# Altium footprint library QFP_Shrink_Sq_50P_Side_N.PcbLib: 32 footprints (part 1 of 3)
Each footprint in its own frame and in the unit in brackets; x right, y up, seen from the top. Pads: shape width x height; smd on the part's side, far side on the other; paste and mask are expansions set on the pad; w line width, h text height; cw(c..) or ccw(c..) is an arc to the next point about the centre after c.
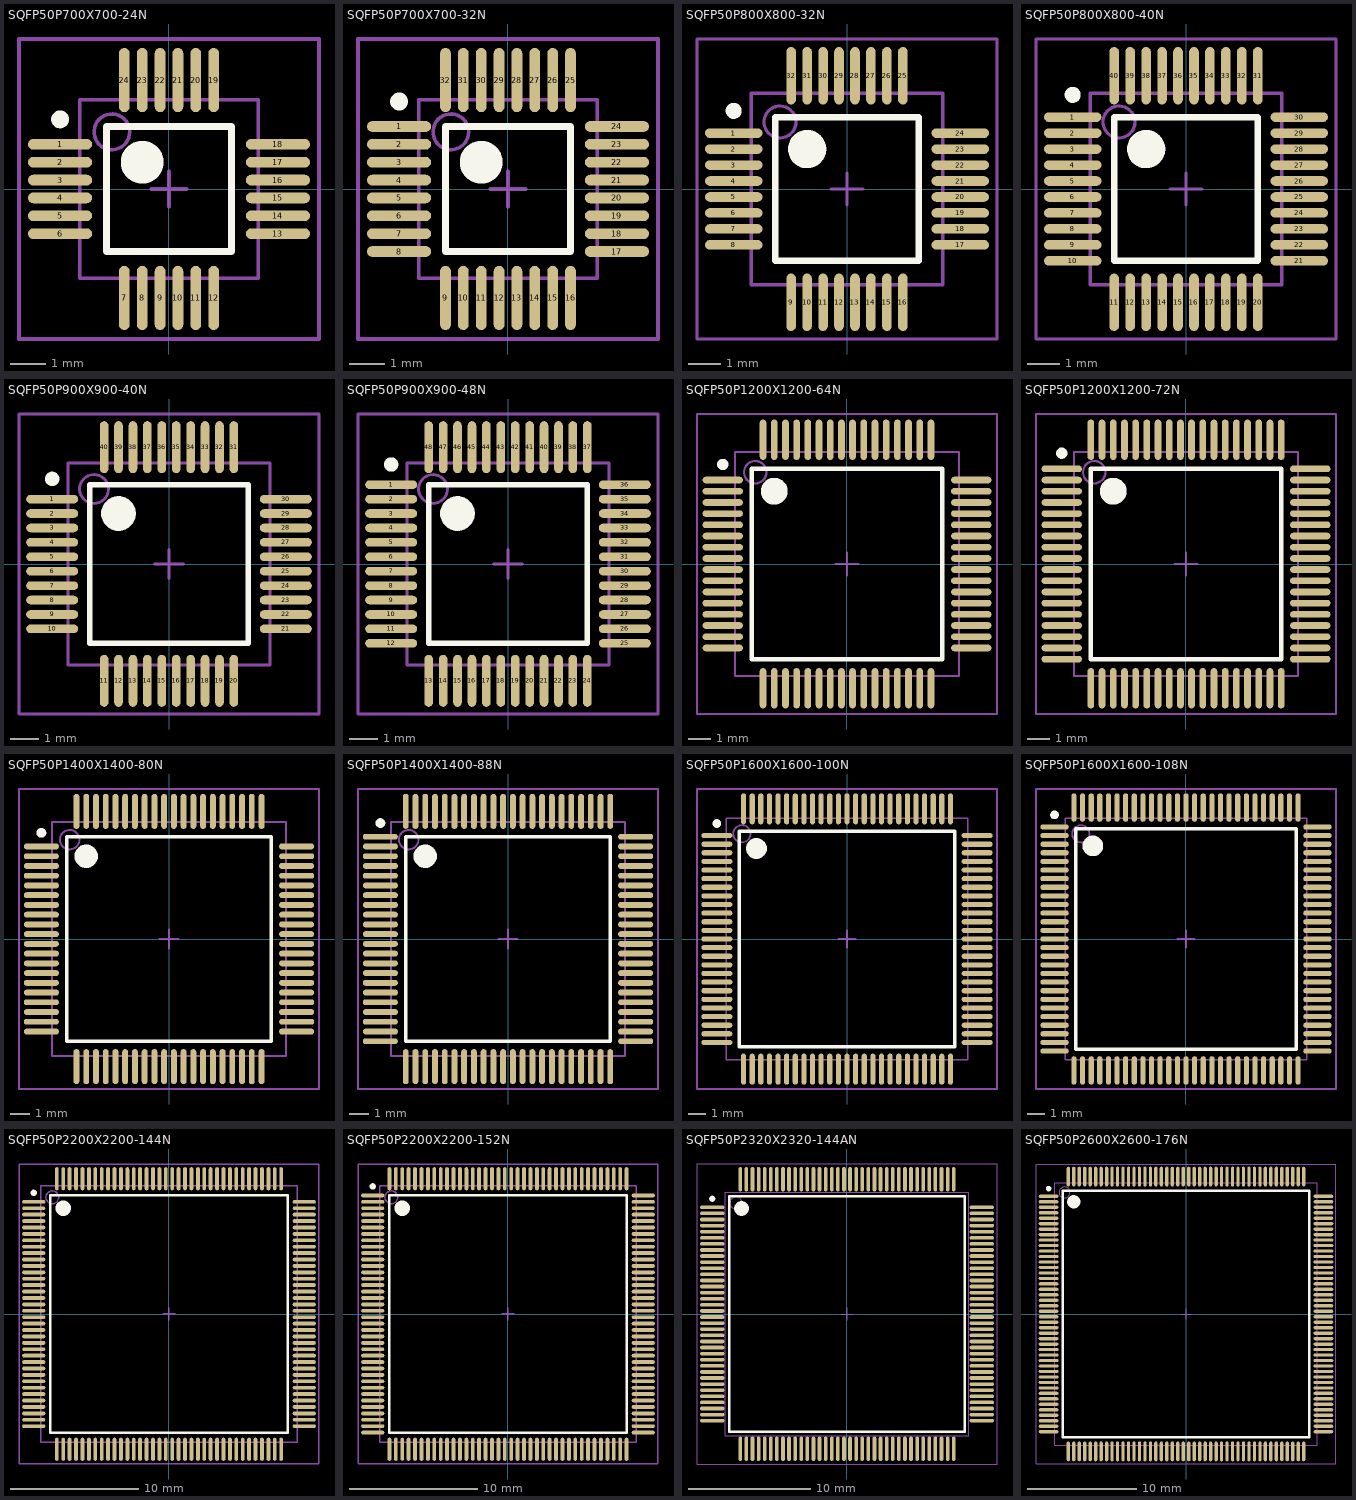
[diagram p0: the footprints below, top view; thin cyan lines are the x and y axes]

## SQFP50P700X700-24N [mm] "Shrink QFP, 24-Leads, Body 5x5mm, Pitch 0.5mm, IPC Medium Density"
height 1.7
pads (24):
  oval 1.8x0.3 smd: 1(-3.05,1.25) 2(-3.05,0.75) 3(-3.05,0.25) 4(-3.05,-0.25) 5(-3.05,-0.75) 6(-3.05,-1.25) 13(3.05,-1.25) 14(3.05,-0.75) 15(3.05,-0.25) 16(3.05,0.25) 17(3.05,0.75) 18(3.05,1.25)
  oval 0.3x1.8 smd: 7(-1.25,-3.05) 8(-0.75,-3.05) 9(-0.25,-3.05) 10(0.25,-3.05) 11(0.75,-3.05) 12(1.25,-3.05) 19(1.25,3.05) 20(0.75,3.05) 21(0.25,3.05) 22(-0.25,3.05) 23(-0.75,3.05) 24(-1.25,3.05)
Top Overlay:
  circle w0.6: c-0.75,0.75 r0.3
  circle w0.25: c-3.05,1.95 r0.125
  lines w0.2: -1.75,-1.75 1.75,-1.75 1.75,1.75 -1.75,1.75 -1.75,-1.75
Mechanical 13:
  circle w0.1: c-1.6,1.6 r0.5
  lines w0.1: -2.5,-2.5 2.5,-2.5 2.5,2.5 -2.5,2.5 -2.5,-2.5
Mechanical 15:
  lines w0.1: -0.5,0 0.5,0 ; 0,-0.5 0,0.5 ; -4.2,-4.2 4.2,-4.2 4.2,4.2 -4.2,4.2 -4.2,-4.2
3D body: height 1.7, standoff 0, extent -2.5,-2.5 2.5,2.5

## SQFP50P700X700-32N [mm] "Shrink QFP, 32-Leads, Body 5x5mm, Pitch 0.5mm, IPC Medium Density"
height 1.7
pads (32):
  oval 1.8x0.3 smd: 1(-3.05,1.75) 2(-3.05,1.25) 3(-3.05,0.75) 4(-3.05,0.25) 5(-3.05,-0.25) 6(-3.05,-0.75) 7(-3.05,-1.25) 8(-3.05,-1.75) 17(3.05,-1.75) 18(3.05,-1.25) 19(3.05,-0.75) 20(3.05,-0.25) 21(3.05,0.25) 22(3.05,0.75) 23(3.05,1.25) 24(3.05,1.75)
  oval 0.3x1.8 smd: 9(-1.75,-3.05) 10(-1.25,-3.05) 11(-0.75,-3.05) 12(-0.25,-3.05) 13(0.25,-3.05) 14(0.75,-3.05) 15(1.25,-3.05) 16(1.75,-3.05) 25(1.75,3.05) 26(1.25,3.05) 27(0.75,3.05) 28(0.25,3.05) 29(-0.25,3.05) 30(-0.75,3.05) 31(-1.25,3.05) 32(-1.75,3.05)
Top Overlay:
  circle w0.6: c-0.75,0.75 r0.3
  circle w0.25: c-3.05,2.45 r0.125
  lines w0.2: -1.75,-1.75 1.75,-1.75 1.75,1.75 -1.75,1.75 -1.75,-1.75
Mechanical 13:
  circle w0.1: c-1.6,1.6 r0.5
  lines w0.1: -2.5,-2.5 2.5,-2.5 2.5,2.5 -2.5,2.5 -2.5,-2.5
Mechanical 15:
  lines w0.1: -0.5,0 0.5,0 ; 0,-0.5 0,0.5 ; -4.2,-4.2 4.2,-4.2 4.2,4.2 -4.2,4.2 -4.2,-4.2
3D body: height 1.7, standoff 0, extent -2.5,-2.5 2.5,2.5

## SQFP50P800X800-32N [mm] "Shrink QFP, 32-Leads, Body 6x6mm, Pitch 0.5mm, IPC Medium Density"
height 1.7
pads (32):
  oval 1.8x0.3 smd: 1(-3.55,1.75) 2(-3.55,1.25) 3(-3.55,0.75) 4(-3.55,0.25) 5(-3.55,-0.25) 6(-3.55,-0.75) 7(-3.55,-1.25) 8(-3.55,-1.75) 17(3.55,-1.75) 18(3.55,-1.25) 19(3.55,-0.75) 20(3.55,-0.25) 21(3.55,0.25) 22(3.55,0.75) 23(3.55,1.25) 24(3.55,1.75)
  oval 0.3x1.8 smd: 9(-1.75,-3.55) 10(-1.25,-3.55) 11(-0.75,-3.55) 12(-0.25,-3.55) 13(0.25,-3.55) 14(0.75,-3.55) 15(1.25,-3.55) 16(1.75,-3.55) 25(1.75,3.55) 26(1.25,3.55) 27(0.75,3.55) 28(0.25,3.55) 29(-0.25,3.55) 30(-0.75,3.55) 31(-1.25,3.55) 32(-1.75,3.55)
Top Overlay:
  circle w0.6: c-1.25,1.25 r0.3
  circle w0.25: c-3.55,2.45 r0.125
  lines w0.2: -2.25,-2.25 2.25,-2.25 2.25,2.25 -2.25,2.25 -2.25,-2.25
Mechanical 13:
  circle w0.1: c-2.1,2.1 r0.5
  lines w0.1: -3,-3 3,-3 3,3 -3,3 -3,-3
Mechanical 15:
  lines w0.1: -0.5,0 0.5,0 ; 0,-0.5 0,0.5 ; -4.7,-4.7 4.7,-4.7 4.7,4.7 -4.7,4.7 -4.7,-4.7
3D body: height 1.7, standoff 0, extent -3,-3 3,3

## SQFP50P800X800-40N [mm] "Shrink QFP, 40-Leads, Body 6x6mm, Pitch 0.5mm, IPC Medium Density"
height 1.7
pads (40):
  oval 1.8x0.3 smd: 1(-3.55,2.25) 2(-3.55,1.75) 3(-3.55,1.25) 4(-3.55,0.75) 5(-3.55,0.25) 6(-3.55,-0.25) 7(-3.55,-0.75) 8(-3.55,-1.25) 9(-3.55,-1.75) 10(-3.55,-2.25) 21(3.55,-2.25) 22(3.55,-1.75) 23(3.55,-1.25) 24(3.55,-0.75) 25(3.55,-0.25) 26(3.55,0.25) 27(3.55,0.75) 28(3.55,1.25) 29(3.55,1.75) 30(3.55,2.25)
  oval 0.3x1.8 smd: 11(-2.25,-3.55) 12(-1.75,-3.55) 13(-1.25,-3.55) 14(-0.75,-3.55) 15(-0.25,-3.55) 16(0.25,-3.55) 17(0.75,-3.55) 18(1.25,-3.55) 19(1.75,-3.55) 20(2.25,-3.55) 31(2.25,3.55) 32(1.75,3.55) 33(1.25,3.55) 34(0.75,3.55) 35(0.25,3.55) 36(-0.25,3.55) 37(-0.75,3.55) 38(-1.25,3.55) 39(-1.75,3.55) 40(-2.25,3.55)
Top Overlay:
  circle w0.6: c-1.25,1.25 r0.3
  circle w0.25: c-3.55,2.95 r0.125
  lines w0.2: -2.25,-2.25 2.25,-2.25 2.25,2.25 -2.25,2.25 -2.25,-2.25
Mechanical 13:
  circle w0.1: c-2.1,2.1 r0.5
  lines w0.1: -3,-3 3,-3 3,3 -3,3 -3,-3
Mechanical 15:
  lines w0.1: -0.5,0 0.5,0 ; 0,-0.5 0,0.5 ; -4.7,-4.7 4.7,-4.7 4.7,4.7 -4.7,4.7 -4.7,-4.7
3D body: height 1.7, standoff 0, extent -3,-3 3,3

## SQFP50P900X900-40N [mm] "Shrink QFP, 40-Leads, Body 7x7mm, Pitch 0.5mm, IPC Medium Density"
height 1.7
pads (40):
  oval 1.8x0.3 smd: 1(-4.05,2.25) 2(-4.05,1.75) 3(-4.05,1.25) 4(-4.05,0.75) 5(-4.05,0.25) 6(-4.05,-0.25) 7(-4.05,-0.75) 8(-4.05,-1.25) 9(-4.05,-1.75) 10(-4.05,-2.25) 21(4.05,-2.25) 22(4.05,-1.75) 23(4.05,-1.25) 24(4.05,-0.75) 25(4.05,-0.25) 26(4.05,0.25) 27(4.05,0.75) 28(4.05,1.25) 29(4.05,1.75) 30(4.05,2.25)
  oval 0.3x1.8 smd: 11(-2.25,-4.05) 12(-1.75,-4.05) 13(-1.25,-4.05) 14(-0.75,-4.05) 15(-0.25,-4.05) 16(0.25,-4.05) 17(0.75,-4.05) 18(1.25,-4.05) 19(1.75,-4.05) 20(2.25,-4.05) 31(2.25,4.05) 32(1.75,4.05) 33(1.25,4.05) 34(0.75,4.05) 35(0.25,4.05) 36(-0.25,4.05) 37(-0.75,4.05) 38(-1.25,4.05) 39(-1.75,4.05) 40(-2.25,4.05)
Top Overlay:
  circle w0.6: c-1.75,1.75 r0.3
  circle w0.25: c-4.05,2.95 r0.125
  lines w0.2: -2.75,-2.75 2.75,-2.75 2.75,2.75 -2.75,2.75 -2.75,-2.75
Mechanical 13:
  circle w0.1: c-2.6,2.6 r0.5
  lines w0.1: -3.5,-3.5 3.5,-3.5 3.5,3.5 -3.5,3.5 -3.5,-3.5
Mechanical 15:
  lines w0.1: -0.5,0 0.5,0 ; 0,-0.5 0,0.5 ; -5.2,-5.2 5.2,-5.2 5.2,5.2 -5.2,5.2 -5.2,-5.2
3D body: height 1.7, standoff 0, extent -3.5,-3.5 3.5,3.5

## SQFP50P900X900-48N [mm] "Shrink QFP, 48-Leads, Body 7x7mm, Pitch 0.5mm, IPC Medium Density"
height 1.7
pads (48):
  oval 1.8x0.3 smd: 1(-4.05,2.75) 2(-4.05,2.25) 3(-4.05,1.75) 4(-4.05,1.25) 5(-4.05,0.75) 6(-4.05,0.25) 7(-4.05,-0.25) 8(-4.05,-0.75) 9(-4.05,-1.25) 10(-4.05,-1.75) 11(-4.05,-2.25) 12(-4.05,-2.75) 25(4.05,-2.75) 26(4.05,-2.25) 27(4.05,-1.75) 28(4.05,-1.25) 29(4.05,-0.75) 30(4.05,-0.25) 31(4.05,0.25) 32(4.05,0.75) 33(4.05,1.25) 34(4.05,1.75) 35(4.05,2.25) 36(4.05,2.75)
  oval 0.3x1.8 smd: 13(-2.75,-4.05) 14(-2.25,-4.05) 15(-1.75,-4.05) 16(-1.25,-4.05) 17(-0.75,-4.05) 18(-0.25,-4.05) 19(0.25,-4.05) 20(0.75,-4.05) 21(1.25,-4.05) 22(1.75,-4.05) 23(2.25,-4.05) 24(2.75,-4.05) 37(2.75,4.05) 38(2.25,4.05) 39(1.75,4.05) 40(1.25,4.05) 41(0.75,4.05) 42(0.25,4.05) 43(-0.25,4.05) 44(-0.75,4.05) 45(-1.25,4.05) 46(-1.75,4.05) 47(-2.25,4.05) 48(-2.75,4.05)
Top Overlay:
  circle w0.6: c-1.75,1.75 r0.3
  circle w0.25: c-4.05,3.45 r0.125
  lines w0.2: -2.75,-2.75 2.75,-2.75 2.75,2.75 -2.75,2.75 -2.75,-2.75
Mechanical 13:
  circle w0.1: c-2.6,2.6 r0.5
  lines w0.1: -3.5,-3.5 3.5,-3.5 3.5,3.5 -3.5,3.5 -3.5,-3.5
Mechanical 15:
  lines w0.1: -0.5,0 0.5,0 ; 0,-0.5 0,0.5 ; -5.2,-5.2 5.2,-5.2 5.2,5.2 -5.2,5.2 -5.2,-5.2
3D body: height 1.7, standoff 0, extent -3.5,-3.5 3.5,3.5

## SQFP50P1200X1200-64N [mm] "Shrink QFP, 64-Leads, Body 10x10mm, Pitch 0.5mm, IPC Medium Density"
height 2.2
pads (64):
  oval 1.8x0.3 smd: 1(-5.55,3.75) 2(-5.55,3.25) 3(-5.55,2.75) 4(-5.55,2.25) 5(-5.55,1.75) 6(-5.55,1.25) 7(-5.55,0.75) 8(-5.55,0.25) 9(-5.55,-0.25) 10(-5.55,-0.75) 11(-5.55,-1.25) 12(-5.55,-1.75) 13(-5.55,-2.25) 14(-5.55,-2.75) 15(-5.55,-3.25) 16(-5.55,-3.75) 33(5.55,-3.75) 34(5.55,-3.25) 35(5.55,-2.75) 36(5.55,-2.25) 37(5.55,-1.75) 38(5.55,-1.25) 39(5.55,-0.75) 40(5.55,-0.25) 41(5.55,0.25) 42(5.55,0.75) 43(5.55,1.25) 44(5.55,1.75) 45(5.55,2.25) 46(5.55,2.75) 47(5.55,3.25) 48(5.55,3.75)
  oval 0.3x1.8 smd: 17(-3.75,-5.55) 18(-3.25,-5.55) 19(-2.75,-5.55) 20(-2.25,-5.55) 21(-1.75,-5.55) 22(-1.25,-5.55) 23(-0.75,-5.55) 24(-0.25,-5.55) 25(0.25,-5.55) 26(0.75,-5.55) 27(1.25,-5.55) 28(1.75,-5.55) 29(2.25,-5.55) 30(2.75,-5.55) 31(3.25,-5.55) 32(3.75,-5.55) 49(3.75,5.55) 50(3.25,5.55) 51(2.75,5.55) 52(2.25,5.55) 53(1.75,5.55) 54(1.25,5.55) 55(0.75,5.55) 56(0.25,5.55) 57(-0.25,5.55) 58(-0.75,5.55) 59(-1.25,5.55) 60(-1.75,5.55) 61(-2.25,5.55) 62(-2.75,5.55) 63(-3.25,5.55) 64(-3.75,5.55)
Top Overlay:
  circle w0.6: c-3.25,3.25 r0.3
  circle w0.25: c-5.55,4.45 r0.125
  lines w0.2: -4.25,-4.25 4.25,-4.25 4.25,4.25 -4.25,4.25 -4.25,-4.25
Mechanical 13:
  circle w0.1: c-4.1,4.1 r0.5
  lines w0.1: -5,-5 5,-5 5,5 -5,5 -5,-5
Mechanical 15:
  lines w0.1: -0.5,0 0.5,0 ; 0,-0.5 0,0.5 ; -6.7,-6.7 6.7,-6.7 6.7,6.7 -6.7,6.7 -6.7,-6.7
3D body: height 2.2, standoff 0, extent -5,-5 5,5

## SQFP50P1200X1200-72N [mm] "Shrink QFP, 72-Leads, Body 10x10mm, Pitch 0.5mm, IPC Medium Density"
height 2.2
pads (72):
  oval 1.8x0.3 smd: 1(-5.55,4.25) 2(-5.55,3.75) 3(-5.55,3.25) 4(-5.55,2.75) 5(-5.55,2.25) 6(-5.55,1.75) 7(-5.55,1.25) 8(-5.55,0.75) 9(-5.55,0.25) 10(-5.55,-0.25) 11(-5.55,-0.75) 12(-5.55,-1.25) 13(-5.55,-1.75) 14(-5.55,-2.25) 15(-5.55,-2.75) 16(-5.55,-3.25) 17(-5.55,-3.75) 18(-5.55,-4.25) 37(5.55,-4.25) 38(5.55,-3.75) 39(5.55,-3.25) 40(5.55,-2.75) 41(5.55,-2.25) 42(5.55,-1.75) 43(5.55,-1.25) 44(5.55,-0.75) 45(5.55,-0.25) 46(5.55,0.25) 47(5.55,0.75) 48(5.55,1.25) 49(5.55,1.75) 50(5.55,2.25) 51(5.55,2.75) 52(5.55,3.25) 53(5.55,3.75) 54(5.55,4.25)
  oval 0.3x1.8 smd: 19(-4.25,-5.55) 20(-3.75,-5.55) 21(-3.25,-5.55) 22(-2.75,-5.55) 23(-2.25,-5.55) 24(-1.75,-5.55) 25(-1.25,-5.55) 26(-0.75,-5.55) 27(-0.25,-5.55) 28(0.25,-5.55) 29(0.75,-5.55) 30(1.25,-5.55) 31(1.75,-5.55) 32(2.25,-5.55) 33(2.75,-5.55) 34(3.25,-5.55) 35(3.75,-5.55) 36(4.25,-5.55) 55(4.25,5.55) 56(3.75,5.55) 57(3.25,5.55) 58(2.75,5.55) 59(2.25,5.55) 60(1.75,5.55) 61(1.25,5.55) 62(0.75,5.55) 63(0.25,5.55) 64(-0.25,5.55) 65(-0.75,5.55) 66(-1.25,5.55) 67(-1.75,5.55) 68(-2.25,5.55) 69(-2.75,5.55) 70(-3.25,5.55) 71(-3.75,5.55) 72(-4.25,5.55)
Top Overlay:
  circle w0.6: c-3.25,3.25 r0.3
  circle w0.25: c-5.55,4.95 r0.125
  lines w0.2: -4.25,-4.25 4.25,-4.25 4.25,4.25 -4.25,4.25 -4.25,-4.25
Mechanical 13:
  circle w0.1: c-4.1,4.1 r0.5
  lines w0.1: -5,-5 5,-5 5,5 -5,5 -5,-5
Mechanical 15:
  lines w0.1: -0.5,0 0.5,0 ; 0,-0.5 0,0.5 ; -6.7,-6.7 6.7,-6.7 6.7,6.7 -6.7,6.7 -6.7,-6.7
3D body: height 2.2, standoff 0, extent -5,-5 5,5

## SQFP50P1400X1400-80N [mm] "Shrink QFP, 80-Leads, Body 12x12mm, Pitch 0.5mm, IPC Medium Density"
height 2.2
pads (80):
  oval 1.8x0.3 smd: 1(-6.55,4.75) 2(-6.55,4.25) 3(-6.55,3.75) 4(-6.55,3.25) 5(-6.55,2.75) 6(-6.55,2.25) 7(-6.55,1.75) 8(-6.55,1.25) 9(-6.55,0.75) 10(-6.55,0.25) 11(-6.55,-0.25) 12(-6.55,-0.75) 13(-6.55,-1.25) 14(-6.55,-1.75) 15(-6.55,-2.25) 16(-6.55,-2.75) 17(-6.55,-3.25) 18(-6.55,-3.75) 19(-6.55,-4.25) 20(-6.55,-4.75) 41(6.55,-4.75) 42(6.55,-4.25) 43(6.55,-3.75) 44(6.55,-3.25) 45(6.55,-2.75) 46(6.55,-2.25) 47(6.55,-1.75) 48(6.55,-1.25) 49(6.55,-0.75) 50(6.55,-0.25) 51(6.55,0.25) 52(6.55,0.75) 53(6.55,1.25) 54(6.55,1.75) 55(6.55,2.25) 56(6.55,2.75) 57(6.55,3.25) 58(6.55,3.75) 59(6.55,4.25) 60(6.55,4.75)
  oval 0.3x1.8 smd: 21(-4.75,-6.55) 22(-4.25,-6.55) 23(-3.75,-6.55) 24(-3.25,-6.55) 25(-2.75,-6.55) 26(-2.25,-6.55) 27(-1.75,-6.55) 28(-1.25,-6.55) 29(-0.75,-6.55) 30(-0.25,-6.55) 31(0.25,-6.55) 32(0.75,-6.55) 33(1.25,-6.55) 34(1.75,-6.55) 35(2.25,-6.55) 36(2.75,-6.55) 37(3.25,-6.55) 38(3.75,-6.55) 39(4.25,-6.55) 40(4.75,-6.55) 61(4.75,6.55) 62(4.25,6.55) 63(3.75,6.55) 64(3.25,6.55) 65(2.75,6.55) 66(2.25,6.55) 67(1.75,6.55) 68(1.25,6.55) 69(0.75,6.55) 70(0.25,6.55) 71(-0.25,6.55) 72(-0.75,6.55) 73(-1.25,6.55) 74(-1.75,6.55) 75(-2.25,6.55) 76(-2.75,6.55) 77(-3.25,6.55) 78(-3.75,6.55) 79(-4.25,6.55) 80(-4.75,6.55)
Top Overlay:
  circle w0.6: c-4.25,4.25 r0.3
  circle w0.25: c-6.55,5.45 r0.125
  lines w0.2: -5.25,-5.25 5.25,-5.25 5.25,5.25 -5.25,5.25 -5.25,-5.25
Mechanical 13:
  circle w0.1: c-5.1,5.1 r0.5
  lines w0.1: -6,-6 6,-6 6,6 -6,6 -6,-6
Mechanical 15:
  lines w0.1: -0.5,0 0.5,0 ; 0,-0.5 0,0.5 ; -7.7,-7.7 7.7,-7.7 7.7,7.7 -7.7,7.7 -7.7,-7.7
3D body: height 2.2, standoff 0, extent -6,-6 6,6

## SQFP50P1400X1400-88N [mm] "Shrink QFP, 88-Leads, Body 12x12mm, Pitch 0.5mm, IPC Medium Density"
height 2.2
pads (88):
  oval 1.8x0.3 smd: 1(-6.55,5.25) 2(-6.55,4.75) 3(-6.55,4.25) 4(-6.55,3.75) 5(-6.55,3.25) 6(-6.55,2.75) 7(-6.55,2.25) 8(-6.55,1.75) 9(-6.55,1.25) 10(-6.55,0.75) 11(-6.55,0.25) 12(-6.55,-0.25) 13(-6.55,-0.75) 14(-6.55,-1.25) 15(-6.55,-1.75) 16(-6.55,-2.25) 17(-6.55,-2.75) 18(-6.55,-3.25) 19(-6.55,-3.75) 20(-6.55,-4.25) 21(-6.55,-4.75) 22(-6.55,-5.25) 45(6.55,-5.25) 46(6.55,-4.75) 47(6.55,-4.25) 48(6.55,-3.75) 49(6.55,-3.25) 50(6.55,-2.75) 51(6.55,-2.25) 52(6.55,-1.75) 53(6.55,-1.25) 54(6.55,-0.75) 55(6.55,-0.25) 56(6.55,0.25) 57(6.55,0.75) 58(6.55,1.25) 59(6.55,1.75) 60(6.55,2.25) 61(6.55,2.75) 62(6.55,3.25) 63(6.55,3.75) 64(6.55,4.25) 65(6.55,4.75) 66(6.55,5.25)
  oval 0.3x1.8 smd: 23(-5.25,-6.55) 24(-4.75,-6.55) 25(-4.25,-6.55) 26(-3.75,-6.55) 27(-3.25,-6.55) 28(-2.75,-6.55) 29(-2.25,-6.55) 30(-1.75,-6.55) 31(-1.25,-6.55) 32(-0.75,-6.55) 33(-0.25,-6.55) 34(0.25,-6.55) 35(0.75,-6.55) 36(1.25,-6.55) 37(1.75,-6.55) 38(2.25,-6.55) 39(2.75,-6.55) 40(3.25,-6.55) 41(3.75,-6.55) 42(4.25,-6.55) 43(4.75,-6.55) 44(5.25,-6.55) 67(5.25,6.55) 68(4.75,6.55) 69(4.25,6.55) 70(3.75,6.55) 71(3.25,6.55) 72(2.75,6.55) 73(2.25,6.55) 74(1.75,6.55) 75(1.25,6.55) 76(0.75,6.55) 77(0.25,6.55) 78(-0.25,6.55) 79(-0.75,6.55) 80(-1.25,6.55) 81(-1.75,6.55) 82(-2.25,6.55) 83(-2.75,6.55) 84(-3.25,6.55) 85(-3.75,6.55) 86(-4.25,6.55) 87(-4.75,6.55) 88(-5.25,6.55)
Top Overlay:
  circle w0.6: c-4.25,4.25 r0.3
  circle w0.25: c-6.55,5.95 r0.125
  lines w0.2: -5.25,-5.25 5.25,-5.25 5.25,5.25 -5.25,5.25 -5.25,-5.25
Mechanical 13:
  circle w0.1: c-5.1,5.1 r0.5
  lines w0.1: -6,-6 6,-6 6,6 -6,6 -6,-6
Mechanical 15:
  lines w0.1: -0.5,0 0.5,0 ; 0,-0.5 0,0.5 ; -7.7,-7.7 7.7,-7.7 7.7,7.7 -7.7,7.7 -7.7,-7.7
3D body: height 2.2, standoff 0, extent -6,-6 6,6

## SQFP50P1600X1600-100N [mm] "Shrink QFP, 100-Leads, Body 14x14mm, Pitch 0.5mm, IPC Medium Density"
height 1.7
pads (100):
  oval 1.8x0.3 smd: 1(-7.55,6) 2(-7.55,5.5) 3(-7.55,5) 4(-7.55,4.5) 5(-7.55,4) 6(-7.55,3.5) 7(-7.55,3) 8(-7.55,2.5) 9(-7.55,2) 10(-7.55,1.5) 11(-7.55,1) 12(-7.55,0.5) 13(-7.55,0) 14(-7.55,-0.5) 15(-7.55,-1) 16(-7.55,-1.5) 17(-7.55,-2) 18(-7.55,-2.5) 19(-7.55,-3) 20(-7.55,-3.5) 21(-7.55,-4) 22(-7.55,-4.5) 23(-7.55,-5) 24(-7.55,-5.5) 25(-7.55,-6) 51(7.55,-6) 52(7.55,-5.5) 53(7.55,-5) 54(7.55,-4.5) 55(7.55,-4) 56(7.55,-3.5) 57(7.55,-3) 58(7.55,-2.5) 59(7.55,-2) 60(7.55,-1.5) 61(7.55,-1) 62(7.55,-0.5) 63(7.55,0) 64(7.55,0.5) 65(7.55,1) 66(7.55,1.5) 67(7.55,2) 68(7.55,2.5) 69(7.55,3) 70(7.55,3.5) 71(7.55,4) 72(7.55,4.5) 73(7.55,5) 74(7.55,5.5) 75(7.55,6)
  oval 0.3x1.8 smd: 26(-6,-7.55) 27(-5.5,-7.55) 28(-5,-7.55) 29(-4.5,-7.55) 30(-4,-7.55) 31(-3.5,-7.55) 32(-3,-7.55) 33(-2.5,-7.55) 34(-2,-7.55) 35(-1.5,-7.55) 36(-1,-7.55) 37(-0.5,-7.55) 38(0,-7.55) 39(0.5,-7.55) 40(1,-7.55) 41(1.5,-7.55) 42(2,-7.55) 43(2.5,-7.55) 44(3,-7.55) 45(3.5,-7.55) 46(4,-7.55) 47(4.5,-7.55) 48(5,-7.55) 49(5.5,-7.55) 50(6,-7.55) 76(6,7.55) 77(5.5,7.55) 78(5,7.55) 79(4.5,7.55) 80(4,7.55) 81(3.5,7.55) 82(3,7.55) 83(2.5,7.55) 84(2,7.55) 85(1.5,7.55) 86(1,7.55) 87(0.5,7.55) 88(0,7.55) 89(-0.5,7.55) 90(-1,7.55) 91(-1.5,7.55) 92(-2,7.55) 93(-2.5,7.55) 94(-3,7.55) 95(-3.5,7.55) 96(-4,7.55) 97(-4.5,7.55) 98(-5,7.55) 99(-5.5,7.55) 100(-6,7.55)
Top Overlay:
  circle w0.6: c-5.25,5.25 r0.3
  circle w0.25: c-7.55,6.7 r0.125
  lines w0.2: -6.25,-6.25 6.25,-6.25 6.25,6.25 -6.25,6.25 -6.25,-6.25
Mechanical 13:
  circle w0.1: c-6.1,6.1 r0.5
  lines w0.1: -7,-7 7,-7 7,7 -7,7 -7,-7
Mechanical 15:
  lines w0.1: -0.5,0 0.5,0 ; 0,-0.5 0,0.5 ; -8.7,-8.7 8.7,-8.7 8.7,8.7 -8.7,8.7 -8.7,-8.7
3D body: height 1.7, standoff 0, extent -7,-7 7,7

## SQFP50P1600X1600-108N [mm] "Shrink QFP, 108-Leads, Body 14x14mm, Pitch 0.5mm, IPC Medium Density"
height 2.2
pads (108):
  oval 1.65x0.3 smd: 1(-7.625,6.5) 2(-7.625,6) 3(-7.625,5.5) 4(-7.625,5) 5(-7.625,4.5) 6(-7.625,4) 7(-7.625,3.5) 8(-7.625,3) 9(-7.625,2.5) 10(-7.625,2) 11(-7.625,1.5) 12(-7.625,1) 13(-7.625,0.5) 14(-7.625,0) 15(-7.625,-0.5) 16(-7.625,-1) 17(-7.625,-1.5) 18(-7.625,-2) 19(-7.625,-2.5) 20(-7.625,-3) 21(-7.625,-3.5) 22(-7.625,-4) 23(-7.625,-4.5) 24(-7.625,-5) 25(-7.625,-5.5) 26(-7.625,-6) 27(-7.625,-6.5) 55(7.625,-6.5) 56(7.625,-6) 57(7.625,-5.5) 58(7.625,-5) 59(7.625,-4.5) 60(7.625,-4) 61(7.625,-3.5) 62(7.625,-3) 63(7.625,-2.5) 64(7.625,-2) 65(7.625,-1.5) 66(7.625,-1) 67(7.625,-0.5) 68(7.625,0) 69(7.625,0.5) 70(7.625,1) 71(7.625,1.5) 72(7.625,2) 73(7.625,2.5) 74(7.625,3) 75(7.625,3.5) 76(7.625,4) 77(7.625,4.5) 78(7.625,5) 79(7.625,5.5) 80(7.625,6) 81(7.625,6.5)
  oval 0.3x1.65 smd: 28(-6.5,-7.625) 29(-6,-7.625) 30(-5.5,-7.625) 31(-5,-7.625) 32(-4.5,-7.625) 33(-4,-7.625) 34(-3.5,-7.625) 35(-3,-7.625) 36(-2.5,-7.625) 37(-2,-7.625) 38(-1.5,-7.625) 39(-1,-7.625) 40(-0.5,-7.625) 41(0,-7.625) 42(0.5,-7.625) 43(1,-7.625) 44(1.5,-7.625) 45(2,-7.625) 46(2.5,-7.625) 47(3,-7.625) 48(3.5,-7.625) 49(4,-7.625) 50(4.5,-7.625) 51(5,-7.625) 52(5.5,-7.625) 53(6,-7.625) 54(6.5,-7.625) 82(6.5,7.625) 83(6,7.625) 84(5.5,7.625) 85(5,7.625) 86(4.5,7.625) 87(4,7.625) 88(3.5,7.625) 89(3,7.625) 90(2.5,7.625) 91(2,7.625) 92(1.5,7.625) 93(1,7.625) 94(0.5,7.625) 95(0,7.625) 96(-0.5,7.625) 97(-1,7.625) 98(-1.5,7.625) 99(-2,7.625) 100(-2.5,7.625) 101(-3,7.625) 102(-3.5,7.625) 103(-4,7.625) 104(-4.5,7.625) 105(-5,7.625) 106(-5.5,7.625) 107(-6,7.625) 108(-6.5,7.625)
Top Overlay:
  circle w0.6: c-5.4,5.4 r0.3
  circle w0.25: c-7.625,7.2 r0.125
  lines w0.2: -6.4,-6.4 6.4,-6.4 6.4,6.4 -6.4,6.4 -6.4,-6.4
Mechanical 13:
  circle w0.1: c-6.1,6.1 r0.5
  lines w0.1: -7,-7 7,-7 7,7 -7,7 -7,-7
Mechanical 15:
  lines w0.1: -0.5,0 0.5,0 ; 0,-0.5 0,0.5 ; -8.7,-8.7 8.7,-8.7 8.7,8.7 -8.7,8.7 -8.7,-8.7
3D body: height 2.2, standoff 0, extent -7,-7 7,7

## SQFP50P2200X2200-144N [mm] "Shrink QFP, 144-Leads, Body 20x20mm, Pitch 0.5mm, IPC Medium Density"
height 2.7
pads (144):
  oval 1.8x0.3 smd: 1(-10.55,8.75) 2(-10.55,8.25) 3(-10.55,7.75) 4(-10.55,7.25) 5(-10.55,6.75) 6(-10.55,6.25) 7(-10.55,5.75) 8(-10.55,5.25) 9(-10.55,4.75) 10(-10.55,4.25) 11(-10.55,3.75) 12(-10.55,3.25) 13(-10.55,2.75) 14(-10.55,2.25) 15(-10.55,1.75) 16(-10.55,1.25) 17(-10.55,0.75) 18(-10.55,0.25) 19(-10.55,-0.25) 20(-10.55,-0.75) 21(-10.55,-1.25) 22(-10.55,-1.75) 23(-10.55,-2.25) 24(-10.55,-2.75) 25(-10.55,-3.25) 26(-10.55,-3.75) 27(-10.55,-4.25) 28(-10.55,-4.75) 29(-10.55,-5.25) 30(-10.55,-5.75) 31(-10.55,-6.25) 32(-10.55,-6.75) 33(-10.55,-7.25) 34(-10.55,-7.75) 35(-10.55,-8.25) 36(-10.55,-8.75) 73(10.55,-8.75) 74(10.55,-8.25) 75(10.55,-7.75) 76(10.55,-7.25) 77(10.55,-6.75) 78(10.55,-6.25) 79(10.55,-5.75) 80(10.55,-5.25) 81(10.55,-4.75) 82(10.55,-4.25) 83(10.55,-3.75) 84(10.55,-3.25) 85(10.55,-2.75) 86(10.55,-2.25) 87(10.55,-1.75) 88(10.55,-1.25) 89(10.55,-0.75) 90(10.55,-0.25) 91(10.55,0.25) 92(10.55,0.75) 93(10.55,1.25) 94(10.55,1.75) 95(10.55,2.25) 96(10.55,2.75) 97(10.55,3.25) 98(10.55,3.75) 99(10.55,4.25) 100(10.55,4.75) 101(10.55,5.25) 102(10.55,5.75) 103(10.55,6.25) 104(10.55,6.75) 105(10.55,7.25) 106(10.55,7.75) 107(10.55,8.25) 108(10.55,8.75)
  oval 0.3x1.8 smd: 37(-8.75,-10.55) 38(-8.25,-10.55) 39(-7.75,-10.55) 40(-7.25,-10.55) 41(-6.75,-10.55) 42(-6.25,-10.55) 43(-5.75,-10.55) 44(-5.25,-10.55) 45(-4.75,-10.55) 46(-4.25,-10.55) 47(-3.75,-10.55) 48(-3.25,-10.55) 49(-2.75,-10.55) 50(-2.25,-10.55) 51(-1.75,-10.55) 52(-1.25,-10.55) 53(-0.75,-10.55) 54(-0.25,-10.55) 55(0.25,-10.55) 56(0.75,-10.55) 57(1.25,-10.55) 58(1.75,-10.55) 59(2.25,-10.55) 60(2.75,-10.55) 61(3.25,-10.55) 62(3.75,-10.55) 63(4.25,-10.55) 64(4.75,-10.55) 65(5.25,-10.55) 66(5.75,-10.55) 67(6.25,-10.55) 68(6.75,-10.55) 69(7.25,-10.55) 70(7.75,-10.55) 71(8.25,-10.55) 72(8.75,-10.55) 109(8.75,10.55) 110(8.25,10.55) 111(7.75,10.55) 112(7.25,10.55) 113(6.75,10.55) 114(6.25,10.55) 115(5.75,10.55) 116(5.25,10.55) 117(4.75,10.55) 118(4.25,10.55) 119(3.75,10.55) 120(3.25,10.55) 121(2.75,10.55) 122(2.25,10.55) 123(1.75,10.55) 124(1.25,10.55) 125(0.75,10.55) 126(0.25,10.55) 127(-0.25,10.55) 128(-0.75,10.55) 129(-1.25,10.55) 130(-1.75,10.55) 131(-2.25,10.55) 132(-2.75,10.55) 133(-3.25,10.55) 134(-3.75,10.55) 135(-4.25,10.55) 136(-4.75,10.55) 137(-5.25,10.55) 138(-5.75,10.55) 139(-6.25,10.55) 140(-6.75,10.55) 141(-7.25,10.55) 142(-7.75,10.55) 143(-8.25,10.55) 144(-8.75,10.55)
Top Overlay:
  circle w0.6: c-8.25,8.25 r0.3
  circle w0.25: c-10.55,9.45 r0.125
  lines w0.2: -9.25,-9.25 9.25,-9.25 9.25,9.25 -9.25,9.25 -9.25,-9.25
Mechanical 13:
  circle w0.1: c-9.1,9.1 r0.5
  lines w0.1: -10,-10 10,-10 10,10 -10,10 -10,-10
Mechanical 15:
  lines w0.1: -0.5,0 0.5,0 ; 0,-0.5 0,0.5 ; -11.7,-11.7 11.7,-11.7 11.7,11.7 -11.7,11.7 -11.7,-11.7
3D body: height 2.7, standoff 0, extent -10,-10 10,10

## SQFP50P2200X2200-152N [mm] "Shrink QFP, 152-Leads, Body 20x20mm, Pitch 0.5mm, IPC Medium Density"
height 2.7
pads (152):
  oval 1.8x0.3 smd: 1(-10.55,9.25) 2(-10.55,8.75) 3(-10.55,8.25) 4(-10.55,7.75) 5(-10.55,7.25) 6(-10.55,6.75) 7(-10.55,6.25) 8(-10.55,5.75) 9(-10.55,5.25) 10(-10.55,4.75) 11(-10.55,4.25) 12(-10.55,3.75) 13(-10.55,3.25) 14(-10.55,2.75) 15(-10.55,2.25) 16(-10.55,1.75) 17(-10.55,1.25) 18(-10.55,0.75) 19(-10.55,0.25) 20(-10.55,-0.25) 21(-10.55,-0.75) 22(-10.55,-1.25) 23(-10.55,-1.75) 24(-10.55,-2.25) 25(-10.55,-2.75) 26(-10.55,-3.25) 27(-10.55,-3.75) 28(-10.55,-4.25) 29(-10.55,-4.75) 30(-10.55,-5.25) 31(-10.55,-5.75) 32(-10.55,-6.25) 33(-10.55,-6.75) 34(-10.55,-7.25) 35(-10.55,-7.75) 36(-10.55,-8.25) 37(-10.55,-8.75) 38(-10.55,-9.25) 77(10.55,-9.25) 78(10.55,-8.75) 79(10.55,-8.25) 80(10.55,-7.75) 81(10.55,-7.25) 82(10.55,-6.75) 83(10.55,-6.25) 84(10.55,-5.75) 85(10.55,-5.25) 86(10.55,-4.75) 87(10.55,-4.25) 88(10.55,-3.75) 89(10.55,-3.25) 90(10.55,-2.75) 91(10.55,-2.25) 92(10.55,-1.75) 93(10.55,-1.25) 94(10.55,-0.75) 95(10.55,-0.25) 96(10.55,0.25) 97(10.55,0.75) 98(10.55,1.25) 99(10.55,1.75) 100(10.55,2.25) 101(10.55,2.75) 102(10.55,3.25) 103(10.55,3.75) 104(10.55,4.25) 105(10.55,4.75) 106(10.55,5.25) 107(10.55,5.75) 108(10.55,6.25) 109(10.55,6.75) 110(10.55,7.25) 111(10.55,7.75) 112(10.55,8.25) 113(10.55,8.75) 114(10.55,9.25)
  oval 0.3x1.8 smd: 39(-9.25,-10.55) 40(-8.75,-10.55) 41(-8.25,-10.55) 42(-7.75,-10.55) 43(-7.25,-10.55) 44(-6.75,-10.55) 45(-6.25,-10.55) 46(-5.75,-10.55) 47(-5.25,-10.55) 48(-4.75,-10.55) 49(-4.25,-10.55) 50(-3.75,-10.55) 51(-3.25,-10.55) 52(-2.75,-10.55) 53(-2.25,-10.55) 54(-1.75,-10.55) 55(-1.25,-10.55) 56(-0.75,-10.55) 57(-0.25,-10.55) 58(0.25,-10.55) 59(0.75,-10.55) 60(1.25,-10.55) 61(1.75,-10.55) 62(2.25,-10.55) 63(2.75,-10.55) 64(3.25,-10.55) 65(3.75,-10.55) 66(4.25,-10.55) 67(4.75,-10.55) 68(5.25,-10.55) 69(5.75,-10.55) 70(6.25,-10.55) 71(6.75,-10.55) 72(7.25,-10.55) 73(7.75,-10.55) 74(8.25,-10.55) 75(8.75,-10.55) 76(9.25,-10.55) 115(9.25,10.55) 116(8.75,10.55) 117(8.25,10.55) 118(7.75,10.55) 119(7.25,10.55) 120(6.75,10.55) 121(6.25,10.55) 122(5.75,10.55) 123(5.25,10.55) 124(4.75,10.55) 125(4.25,10.55) 126(3.75,10.55) 127(3.25,10.55) 128(2.75,10.55) 129(2.25,10.55) 130(1.75,10.55) 131(1.25,10.55) 132(0.75,10.55) 133(0.25,10.55) 134(-0.25,10.55) 135(-0.75,10.55) 136(-1.25,10.55) 137(-1.75,10.55) 138(-2.25,10.55) 139(-2.75,10.55) 140(-3.25,10.55) 141(-3.75,10.55) 142(-4.25,10.55) 143(-4.75,10.55) 144(-5.25,10.55) 145(-5.75,10.55) 146(-6.25,10.55) 147(-6.75,10.55) 148(-7.25,10.55) 149(-7.75,10.55) 150(-8.25,10.55) 151(-8.75,10.55) 152(-9.25,10.55)
Top Overlay:
  circle w0.6: c-8.25,8.25 r0.3
  circle w0.25: c-10.55,9.95 r0.125
  lines w0.2: -9.25,-9.25 9.25,-9.25 9.25,9.25 -9.25,9.25 -9.25,-9.25
Mechanical 13:
  circle w0.1: c-9.1,9.1 r0.5
  lines w0.1: -10,-10 10,-10 10,10 -10,10 -10,-10
Mechanical 15:
  lines w0.1: -0.5,0 0.5,0 ; 0,-0.5 0,0.5 ; -11.7,-11.7 11.7,-11.7 11.7,11.7 -11.7,11.7 -11.7,-11.7
3D body: height 2.7, standoff 0, extent -10,-10 10,10

## SQFP50P2320X2320-144AN [mm] "Shrink QFP, 144-Leads, Body 20x20mm, Pitch 0.5mm, IPC Medium Density"
height 3
pads (144):
  oval 2x0.3 smd: 1(-11.05,8.75) 2(-11.05,8.25) 3(-11.05,7.75) 4(-11.05,7.25) 5(-11.05,6.75) 6(-11.05,6.25) 7(-11.05,5.75) 8(-11.05,5.25) 9(-11.05,4.75) 10(-11.05,4.25) 11(-11.05,3.75) 12(-11.05,3.25) 13(-11.05,2.75) 14(-11.05,2.25) 15(-11.05,1.75) 16(-11.05,1.25) 17(-11.05,0.75) 18(-11.05,0.25) 19(-11.05,-0.25) 20(-11.05,-0.75) 21(-11.05,-1.25) 22(-11.05,-1.75) 23(-11.05,-2.25) 24(-11.05,-2.75) 25(-11.05,-3.25) 26(-11.05,-3.75) 27(-11.05,-4.25) 28(-11.05,-4.75) 29(-11.05,-5.25) 30(-11.05,-5.75) 31(-11.05,-6.25) 32(-11.05,-6.75) 33(-11.05,-7.25) 34(-11.05,-7.75) 35(-11.05,-8.25) 36(-11.05,-8.75) 73(11.05,-8.75) 74(11.05,-8.25) 75(11.05,-7.75) 76(11.05,-7.25) 77(11.05,-6.75) 78(11.05,-6.25) 79(11.05,-5.75) 80(11.05,-5.25) 81(11.05,-4.75) 82(11.05,-4.25) 83(11.05,-3.75) 84(11.05,-3.25) 85(11.05,-2.75) 86(11.05,-2.25) 87(11.05,-1.75) 88(11.05,-1.25) 89(11.05,-0.75) 90(11.05,-0.25) 91(11.05,0.25) 92(11.05,0.75) 93(11.05,1.25) 94(11.05,1.75) 95(11.05,2.25) 96(11.05,2.75) 97(11.05,3.25) 98(11.05,3.75) 99(11.05,4.25) 100(11.05,4.75) 101(11.05,5.25) 102(11.05,5.75) 103(11.05,6.25) 104(11.05,6.75) 105(11.05,7.25) 106(11.05,7.75) 107(11.05,8.25) 108(11.05,8.75)
  oval 0.3x2 smd: 37(-8.75,-11.05) 38(-8.25,-11.05) 39(-7.75,-11.05) 40(-7.25,-11.05) 41(-6.75,-11.05) 42(-6.25,-11.05) 43(-5.75,-11.05) 44(-5.25,-11.05) 45(-4.75,-11.05) 46(-4.25,-11.05) 47(-3.75,-11.05) 48(-3.25,-11.05) 49(-2.75,-11.05) 50(-2.25,-11.05) 51(-1.75,-11.05) 52(-1.25,-11.05) 53(-0.75,-11.05) 54(-0.25,-11.05) 55(0.25,-11.05) 56(0.75,-11.05) 57(1.25,-11.05) 58(1.75,-11.05) 59(2.25,-11.05) 60(2.75,-11.05) 61(3.25,-11.05) 62(3.75,-11.05) 63(4.25,-11.05) 64(4.75,-11.05) 65(5.25,-11.05) 66(5.75,-11.05) 67(6.25,-11.05) 68(6.75,-11.05) 69(7.25,-11.05) 70(7.75,-11.05) 71(8.25,-11.05) 72(8.75,-11.05) 109(8.75,11.05) 110(8.25,11.05) 111(7.75,11.05) 112(7.25,11.05) 113(6.75,11.05) 114(6.25,11.05) 115(5.75,11.05) 116(5.25,11.05) 117(4.75,11.05) 118(4.25,11.05) 119(3.75,11.05) 120(3.25,11.05) 121(2.75,11.05) 122(2.25,11.05) 123(1.75,11.05) 124(1.25,11.05) 125(0.75,11.05) 126(0.25,11.05) 127(-0.25,11.05) 128(-0.75,11.05) 129(-1.25,11.05) 130(-1.75,11.05) 131(-2.25,11.05) 132(-2.75,11.05) 133(-3.25,11.05) 134(-3.75,11.05) 135(-4.25,11.05) 136(-4.75,11.05) 137(-5.25,11.05) 138(-5.75,11.05) 139(-6.25,11.05) 140(-6.75,11.05) 141(-7.25,11.05) 142(-7.75,11.05) 143(-8.25,11.05) 144(-8.75,11.05)
Top Overlay:
  circle w0.6: c-8.65,8.65 r0.3
  circle w0.25: c-11.05,9.45 r0.125
  lines w0.2: -9.65,-9.65 9.65,-9.65 9.65,9.65 -9.65,9.65 -9.65,-9.65
Mechanical 13:
  circle w0.1: c-9.1,9.1 r0.5
  lines w0.1: -10,-10 10,-10 10,10 -10,10 -10,-10
Mechanical 15:
  lines w0.1: -0.5,0 0.5,0 ; 0,-0.5 0,0.5 ; -12.3,-12.3 12.3,-12.3 12.3,12.3 -12.3,12.3 -12.3,-12.3
3D body: height 3, standoff 0, extent -10,-10 10,10

## SQFP50P2600X2600-176N [mm] "Shrink QFP, 176-Leads, Body 24x24mm, Pitch 0.5mm, IPC Medium Density"
height 3.2
pads (176):
  oval 1.8x0.3 smd: 1(-12.55,10.75) 2(-12.55,10.25) 3(-12.55,9.75) 4(-12.55,9.25) 5(-12.55,8.75) 6(-12.55,8.25) 7(-12.55,7.75) 8(-12.55,7.25) 9(-12.55,6.75) 10(-12.55,6.25) 11(-12.55,5.75) 12(-12.55,5.25) 13(-12.55,4.75) 14(-12.55,4.25) 15(-12.55,3.75) 16(-12.55,3.25) 17(-12.55,2.75) 18(-12.55,2.25) 19(-12.55,1.75) 20(-12.55,1.25) 21(-12.55,0.75) 22(-12.55,0.25) 23(-12.55,-0.25) 24(-12.55,-0.75) 25(-12.55,-1.25) 26(-12.55,-1.75) 27(-12.55,-2.25) 28(-12.55,-2.75) 29(-12.55,-3.25) 30(-12.55,-3.75) 31(-12.55,-4.25) 32(-12.55,-4.75) 33(-12.55,-5.25) 34(-12.55,-5.75) 35(-12.55,-6.25) 36(-12.55,-6.75) 37(-12.55,-7.25) 38(-12.55,-7.75) 39(-12.55,-8.25) 40(-12.55,-8.75) 41(-12.55,-9.25) 42(-12.55,-9.75) 43(-12.55,-10.25) 44(-12.55,-10.75) 89(12.55,-10.75) 90(12.55,-10.25) 91(12.55,-9.75) 92(12.55,-9.25) 93(12.55,-8.75) 94(12.55,-8.25) 95(12.55,-7.75) 96(12.55,-7.25) 97(12.55,-6.75) 98(12.55,-6.25) 99(12.55,-5.75) 100(12.55,-5.25) 101(12.55,-4.75) 102(12.55,-4.25) 103(12.55,-3.75) 104(12.55,-3.25) 105(12.55,-2.75) 106(12.55,-2.25) 107(12.55,-1.75) 108(12.55,-1.25) 109(12.55,-0.75) 110(12.55,-0.25) 111(12.55,0.25) 112(12.55,0.75) 113(12.55,1.25) 114(12.55,1.75) 115(12.55,2.25) 116(12.55,2.75) 117(12.55,3.25) 118(12.55,3.75) 119(12.55,4.25) 120(12.55,4.75) 121(12.55,5.25) 122(12.55,5.75) 123(12.55,6.25) 124(12.55,6.75) 125(12.55,7.25) 126(12.55,7.75) 127(12.55,8.25) 128(12.55,8.75) 129(12.55,9.25) 130(12.55,9.75) 131(12.55,10.25) 132(12.55,10.75)
  oval 0.3x1.8 smd: 45(-10.75,-12.55) 46(-10.25,-12.55) 47(-9.75,-12.55) 48(-9.25,-12.55) 49(-8.75,-12.55) 50(-8.25,-12.55) 51(-7.75,-12.55) 52(-7.25,-12.55) 53(-6.75,-12.55) 54(-6.25,-12.55) 55(-5.75,-12.55) 56(-5.25,-12.55) 57(-4.75,-12.55) 58(-4.25,-12.55) 59(-3.75,-12.55) 60(-3.25,-12.55) 61(-2.75,-12.55) 62(-2.25,-12.55) 63(-1.75,-12.55) 64(-1.25,-12.55) 65(-0.75,-12.55) 66(-0.25,-12.55) 67(0.25,-12.55) 68(0.75,-12.55) 69(1.25,-12.55) 70(1.75,-12.55) 71(2.25,-12.55) 72(2.75,-12.55) 73(3.25,-12.55) 74(3.75,-12.55) 75(4.25,-12.55) 76(4.75,-12.55) 77(5.25,-12.55) 78(5.75,-12.55) 79(6.25,-12.55) 80(6.75,-12.55) 81(7.25,-12.55) 82(7.75,-12.55) 83(8.25,-12.55) 84(8.75,-12.55) 85(9.25,-12.55) 86(9.75,-12.55) 87(10.25,-12.55) 88(10.75,-12.55) 133(10.75,12.55) 134(10.25,12.55) 135(9.75,12.55) 136(9.25,12.55) 137(8.75,12.55) 138(8.25,12.55) 139(7.75,12.55) 140(7.25,12.55) 141(6.75,12.55) 142(6.25,12.55) 143(5.75,12.55) 144(5.25,12.55) 145(4.75,12.55) 146(4.25,12.55) 147(3.75,12.55) 148(3.25,12.55) 149(2.75,12.55) 150(2.25,12.55) 151(1.75,12.55) 152(1.25,12.55) 153(0.75,12.55) 154(0.25,12.55) 155(-0.25,12.55) 156(-0.75,12.55) 157(-1.25,12.55) 158(-1.75,12.55) 159(-2.25,12.55) 160(-2.75,12.55) 161(-3.25,12.55) 162(-3.75,12.55) 163(-4.25,12.55) 164(-4.75,12.55) 165(-5.25,12.55) 166(-5.75,12.55) 167(-6.25,12.55) 168(-6.75,12.55) 169(-7.25,12.55) 170(-7.75,12.55) 171(-8.25,12.55) 172(-8.75,12.55) 173(-9.25,12.55) 174(-9.75,12.55) 175(-10.25,12.55) 176(-10.75,12.55)
Top Overlay:
  circle w0.6: c-10.25,10.25 r0.3
  circle w0.25: c-12.55,11.45 r0.125
  lines w0.2: -11.25,-11.25 11.25,-11.25 11.25,11.25 -11.25,11.25 -11.25,-11.25
Mechanical 13:
  circle w0.1: c-11.1,11.1 r0.5
  lines w0.1: -12,-12 12,-12 12,12 -12,12 -12,-12
Mechanical 15:
  lines w0.1: -0.5,0 0.5,0 ; 0,-0.5 0,0.5 ; -13.7,-13.7 13.7,-13.7 13.7,13.7 -13.7,13.7 -13.7,-13.7
3D body: height 3.2, standoff 0, extent -12,-12 12,12